# Altium schematic symbol library LDO.SchLib: 11 symbols
Pins are listed as number, name and electrical type; pins without a type are passive.

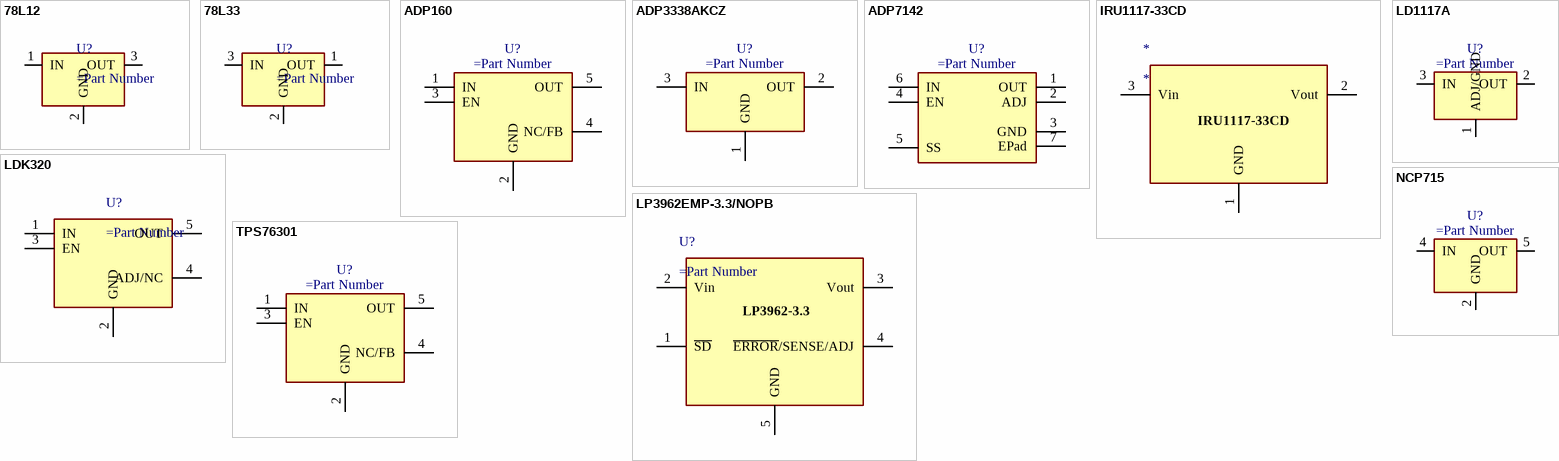
[diagram p0: symbols 78L12 to TPS76301]

## 78L12
designator U?
pins: 1 IN, 2 GND, 3 OUT

## 78L33
designator U?
pins: 1 OUT, 2 GND, 3 IN

## ADP160
designator U?
pins: 1 IN, 2 GND, 3 EN, 4 NC/FB, 5 OUT

## ADP3338AKCZ
designator U?
Manufacturer: Analog Devices Inc.; Manufacturer Part Number: ADP7142ACPZN5.0-R7; ComponentLink1Description: Compel; ComponentLink1URL: https://www.compel.ru/infosheet/AD/ADP1621ARMZ; Supplier 1: Digi-Key; Supplier Part Number 1: ADP7142ACPZN5.0-R7CT-ND
pins: 1 GND, 2 OUT, 3 IN

## ADP7142
designator U?
IC REG LINEAR 5V 200MA 6LFCSP; Manufacturer: Analog Devices Inc.; Manufacturer Part Number: ADP7142ACPZN5.0-R7; ComponentLink1Description: Compel; ComponentLink1URL: https://www.compel.ru/infosheet/AD/ADP1621ARMZ; Supplier 1: Digi-Key; Supplier Part Number 1: ADP7142ACPZN5.0-R7CT-ND
pins: 1 OUT, 2 ADJ, 3 GND, 4 EN, 5 SS, 6 IN, 7 EPad

## IRU1117-33CD
designator *
pins: 1 GND, 2 Vout, 3 Vin

## LD1117A
designator U?
pins: 1 ADJ/GND, 2 OUT, 3 IN

## LDK320
designator U?
pins: 1 IN, 2 GND, 3 EN, 4 ADJ/NC, 5 OUT

## LP3962EMP-3.3/NOPB
designator U?
pins: 1 ~{SD}, 2 Vin, 3 Vout, 4 ~{ERROR}/SENSE/ADJ, 5 GND
text: LP3962-3.3

## NCP715
designator U?
pins: 2 GND, 4 IN, 5 OUT

## TPS76301
designator U?
pins: 1 IN, 2 GND, 3 EN, 4 NC/FB, 5 OUT